# Altium footprint library FerriteBeads.PcbLib: 4 footprints
Each footprint in its own frame and in the unit in brackets; x right, y up, seen from the top. Pads: shape width x height; smd on the part's side, far side on the other; paste and mask are expansions set on the pad; w line width, h text height; cw(c..) or ccw(c..) is an arc to the next point about the centre after c.
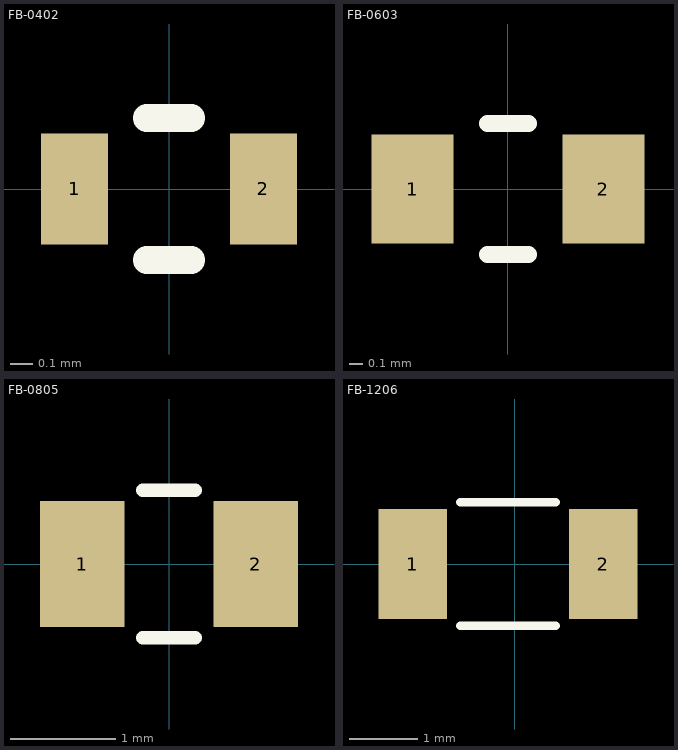
[diagram p0: the footprints below, top view; thin cyan lines are the x and y axes]

## FB-0402 [mm] "FERRITE BEAD"
height 15.49
pads (2):
  rect 0.3x0.5 smd mask+0.051: 1(-0.425,0) 2(0.425,0)
Top Overlay:
  lines w0.125: -0.1,-0.32 0.1,-0.32 ; -0.1,0.32 0.1,0.32
3D body "ferrite_bead_0402.STEP": height 0.5, standoff 0, extent -0.5,-0.25 0.5,0.25

## FB-0603 [mm] "FERRITE BEAD"
height 2.8
pads (2):
  rect 0.6x0.8 smd: 1(-0.7,0) 2(0.7,0)
Top Overlay:
  lines w0.125: -0.15,-0.48 0.15,-0.48 ; -0.15,0.48 0.15,0.48
3D body "ferrite_bead_0603.STEP": height 0.8, standoff 0, extent -0.8,-0.4 0.8,0.4

## FB-0805 [mm] "FERRITE BEAD"
height 2.8
pads (2):
  rect 0.8x1.2 smd: 1(-0.825,0) 2(0.825,0)
Top Overlay:
  lines w0.125: -0.25,-0.7 0.25,-0.7 ; -0.25,0.7 0.25,0.7
3D body "ferrite_bead_0805.STEP": height 0.9, standoff 0, extent -1,-0.6 1,0.6

## FB-1206 [mm] "FERRITE BEAD"
height 2.8
pads (2):
  rect 1x1.6 smd: 1(-1.49,0) 2(1.29,0)
Top Overlay:
  lines w0.125: -0.8,-0.9 0.6,-0.9 ; -0.8,0.9 0.6,0.9
3D body "ferrite_bead_1206.STEP": height 1.1, standoff 0, extent -1.7,-0.8 1.5,0.8